# Altium schematic symbol library WCAP-PSHP.SchLib: 55 symbols (part 2 of 2)
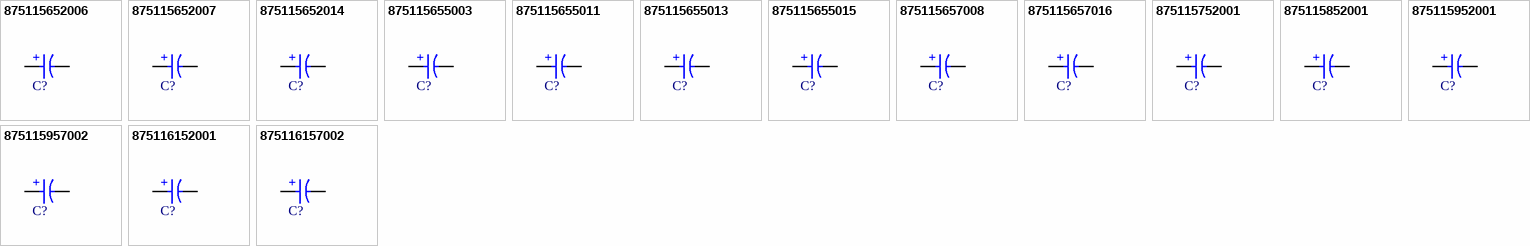
[diagram p2: symbols 875115652006 to 875116157002]

## 875115952001
designator C?, comment 6.8µF  (value not drawn)
WCAP-PSHP Aluminum Polymer Capacitor, V-Chip, SMT, D8 x H8.7mm, 6.8µF, 100V; Manufacturer Part Number: 875115952001; Manufacturer: Wurth Elektronik; Capacitance Tolerance: +/-20%; Dissipation Factor: 12%; Endurance: 2000h; ESR: 48mΩ; Leakage Current: 136µA; Ripple Current: 1500mA; Technical Reference: PSEE0876R8M100DVCTEB000; Category: Aluminum Polymer Capacitors; Match Code: WCAP-PSHP; ComponentLink1Description: Website Link; ComponentLink1URL: https://www.we-online.com/redexpert/article/875115952001?ad; ComponentLink2Description: Datasheet Link; ComponentLink2URL: https://www.we-online.com/redexpert/spec/875115952001?ad; Mount: Surface Mount; Operating Temperature Max: 105°C; Operating Temperature Min: -55°C; Packaging: Tape and Reel; Height: 8.7mm; Diameter: 8mm; Capacitance: 6.8µF; Rated Voltage (DC): 100V
footprint WCAP-PSHP_D8H8.7
simulation model 875115952001_6.8uF
pins: 1 P, 2 N
text: +

## 875115957002
designator C?, comment 12µF  (value not drawn)
WCAP-PSHP Aluminum Polymer Capacitor, V-Chip, SMT, D10 x H10.5mm, 12µF, 100V; Manufacturer Part Number: 875115957002; Manufacturer: Wurth Elektronik; Capacitance Tolerance: +/-20%; Dissipation Factor: 12%; Endurance: 2000h; ESR: 45mΩ; Leakage Current: 240µA; Ripple Current: 1900mA; Technical Reference: PSEF105120M100DVCTEB000; Category: Aluminum Polymer Capacitors; Match Code: WCAP-PSHP; ComponentLink1Description: Website Link; ComponentLink1URL: https://www.we-online.com/redexpert/article/875115957002?ad; ComponentLink2Description: Datasheet Link; ComponentLink2URL: https://www.we-online.com/redexpert/spec/875115957002?ad; Mount: Surface Mount; Operating Temperature Max: 105°C; Operating Temperature Min: -55°C; Packaging: Tape and Reel; Height: 10.5mm; Diameter: 10mm; Capacitance: 12µF; Rated Voltage (DC): 100V
footprint WCAP-PSHP_D10H10.5
simulation model 875115957002_12uF
pins: 1 P, 2 N
text: +

## 875116152001
designator C?, comment 10µF  (value not drawn)
WCAP-PSHP Aluminum Polymer Capacitor, V-Chip, SMT, D8 x H8.7mm, 10µF, 80V; Manufacturer Part Number: 875116152001; Manufacturer: Wurth Elektronik; Capacitance Tolerance: +/-20%; Dissipation Factor: 12%; Endurance: 2000h; ESR: 45mΩ; Leakage Current: 160µA; Ripple Current: 1600mA; Technical Reference: PSEE087100M080DVCTEB000; Category: Aluminum Polymer Capacitors; Match Code: WCAP-PSHP; ComponentLink1Description: Website Link; ComponentLink1URL: https://www.we-online.com/redexpert/article/875116152001?ad; ComponentLink2Description: Datasheet Link; ComponentLink2URL: https://www.we-online.com/redexpert/spec/875116152001?ad; Mount: Surface Mount; Operating Temperature Max: 105°C; Operating Temperature Min: -55°C; Packaging: Tape and Reel; Height: 8.7mm; Diameter: 8mm; Capacitance: 10µF; Rated Voltage (DC): 80V
footprint WCAP-PSHP_D8H8.7
simulation model 875116152001_10uF
pins: 1 P, 2 N
text: +

## 875116157002
designator C?, comment 15µF  (value not drawn)
WCAP-PSHP Aluminum Polymer Capacitor, V-Chip, SMT, D10 x H10.5mm, 15µF, 80V; Manufacturer Part Number: 875116157002; Manufacturer: Wurth Elektronik; Capacitance Tolerance: +/-20%; Dissipation Factor: 12%; Endurance: 2000h; ESR: 40mΩ; Leakage Current: 240µA; Ripple Current: 1900mA; Technical Reference: PSEF105150M080DVCTEB000; Category: Aluminum Polymer Capacitors; Match Code: WCAP-PSHP; ComponentLink1Description: Website Link; ComponentLink1URL: https://www.we-online.com/redexpert/article/875116157002?ad; ComponentLink2Description: Datasheet Link; ComponentLink2URL: https://www.we-online.com/redexpert/spec/875116157002?ad; Mount: Surface Mount; Operating Temperature Max: 105°C; Operating Temperature Min: -55°C; Packaging: Tape and Reel; Height: 10.5mm; Diameter: 10mm; Capacitance: 15µF; Rated Voltage (DC): 80V
footprint WCAP-PSHP_D10H10.5
simulation model 875116157002_15uF
pins: 1 P, 2 N
text: +